# Altium schematic symbol library SCH - CONNECTORS - WURTH - 61202021621.Schlib: 1 symbol
Pins are listed as number, name and electrical type; pins without a type are passive.

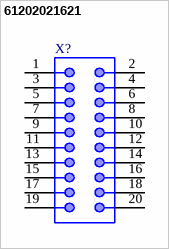
[diagram p0: symbol 61202021621]

## 61202021621
designator X?
Male Box Header WR-BHD, THT, Vertical, pitch 2.54 mm, 20 pins
pins: 1, 2, 3, 4, 5, 6, 7, 8, 9, 10, 11, 12, 13, 14, 15, 16, 17, 18, 19, 20